# EAGLE library part AT24C04C-XHM-T (library U-Generic-AT24C04-EEPROM-I2C-4Kb-TSSOP)
EEPROM with I2C interface
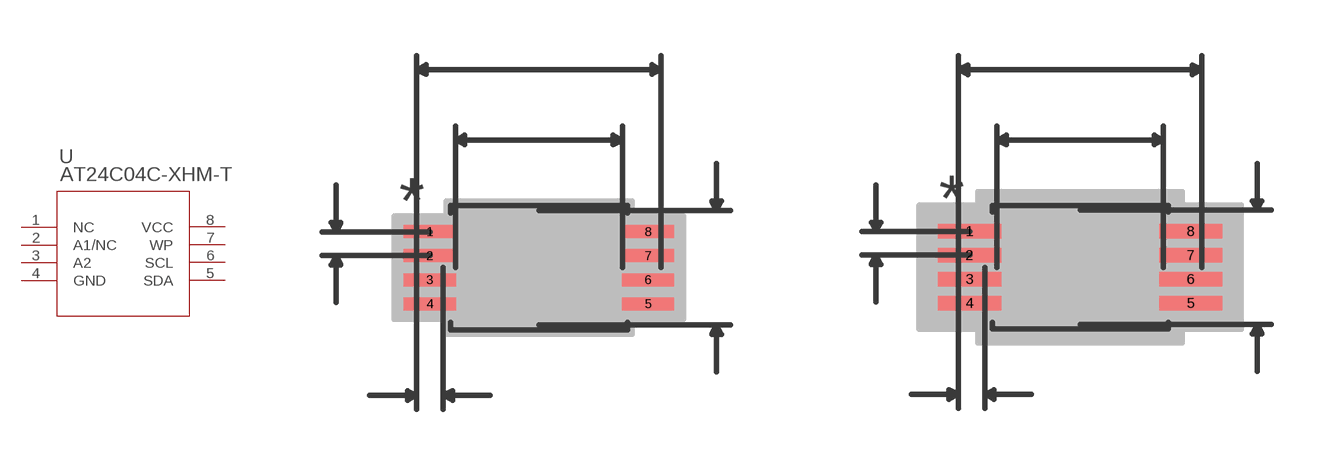
[diagram p0: symbol with the pads of 8X; footprints 8X, 8X-M]

Designator prefix U

## AT24C04C-XHM-T (MANUFACTURER_PART_NUMBER: AT24C04CXHMT; VENDOR: Atmel)  [8X]
1  NC  nc
2  A1/NC
3  A2  in
4  GND  pwr
5  SDA  pas
6  SCL  in
7  WP  pas
8  VCC  pwr

## AT24C04C-XHM-T8X-M (MANUFACTURER_PART_NUMBER: AT24C04CXHMT; VENDOR: Atmel)  [8X-M]
Pads as for 8X

## AT24C04C-XHM-T8X-L (MANUFACTURER_PART_NUMBER: AT24C04CXHMT; VENDOR: Atmel)  [8X-L]
Pads as for 8X

## Footprint 8X (pad centres in mm)
smd 1.411 x 0.351: 1 -2.95,0.975; 2 -2.95,0.325; 3 -2.95,-0.325; 4 -2.95,-0.975; 5 2.95,-0.975; 6 2.95,-0.325; 7 2.95,0.325; 8 2.95,0.975

## Footprint 8X-M (pad centres in mm)
smd 1.716 x 0.402: 1 -3.001,0.975; 2 -3.001,0.325; 3 -3.001,-0.325; 4 -3.001,-0.975; 5 3.001,-0.975; 6 3.001,-0.325; 7 3.001,0.325; 8 3.001,0.975

## Footprint 8X-L (pad centres in mm)
smd 1.106 x 0.3: 1 -2.899,0.975; 2 -2.899,0.325; 3 -2.899,-0.325; 4 -2.899,-0.975; 5 2.899,-0.975; 6 2.899,-0.325; 7 2.899,0.325; 8 2.899,0.975